# Altium footprint library ADAPTONE_CARTE_DE_SON.PcbLib: 29 footprints (part 2 of 2)
Each footprint in its own frame and in the unit in brackets; x right, y up, seen from the top. Pads: shape width x height; smd on the part's side, far side on the other; paste and mask are expansions set on the pad; w line width, h text height; cw(c..) or ccw(c..) is an arc to the next point about the centre after c.
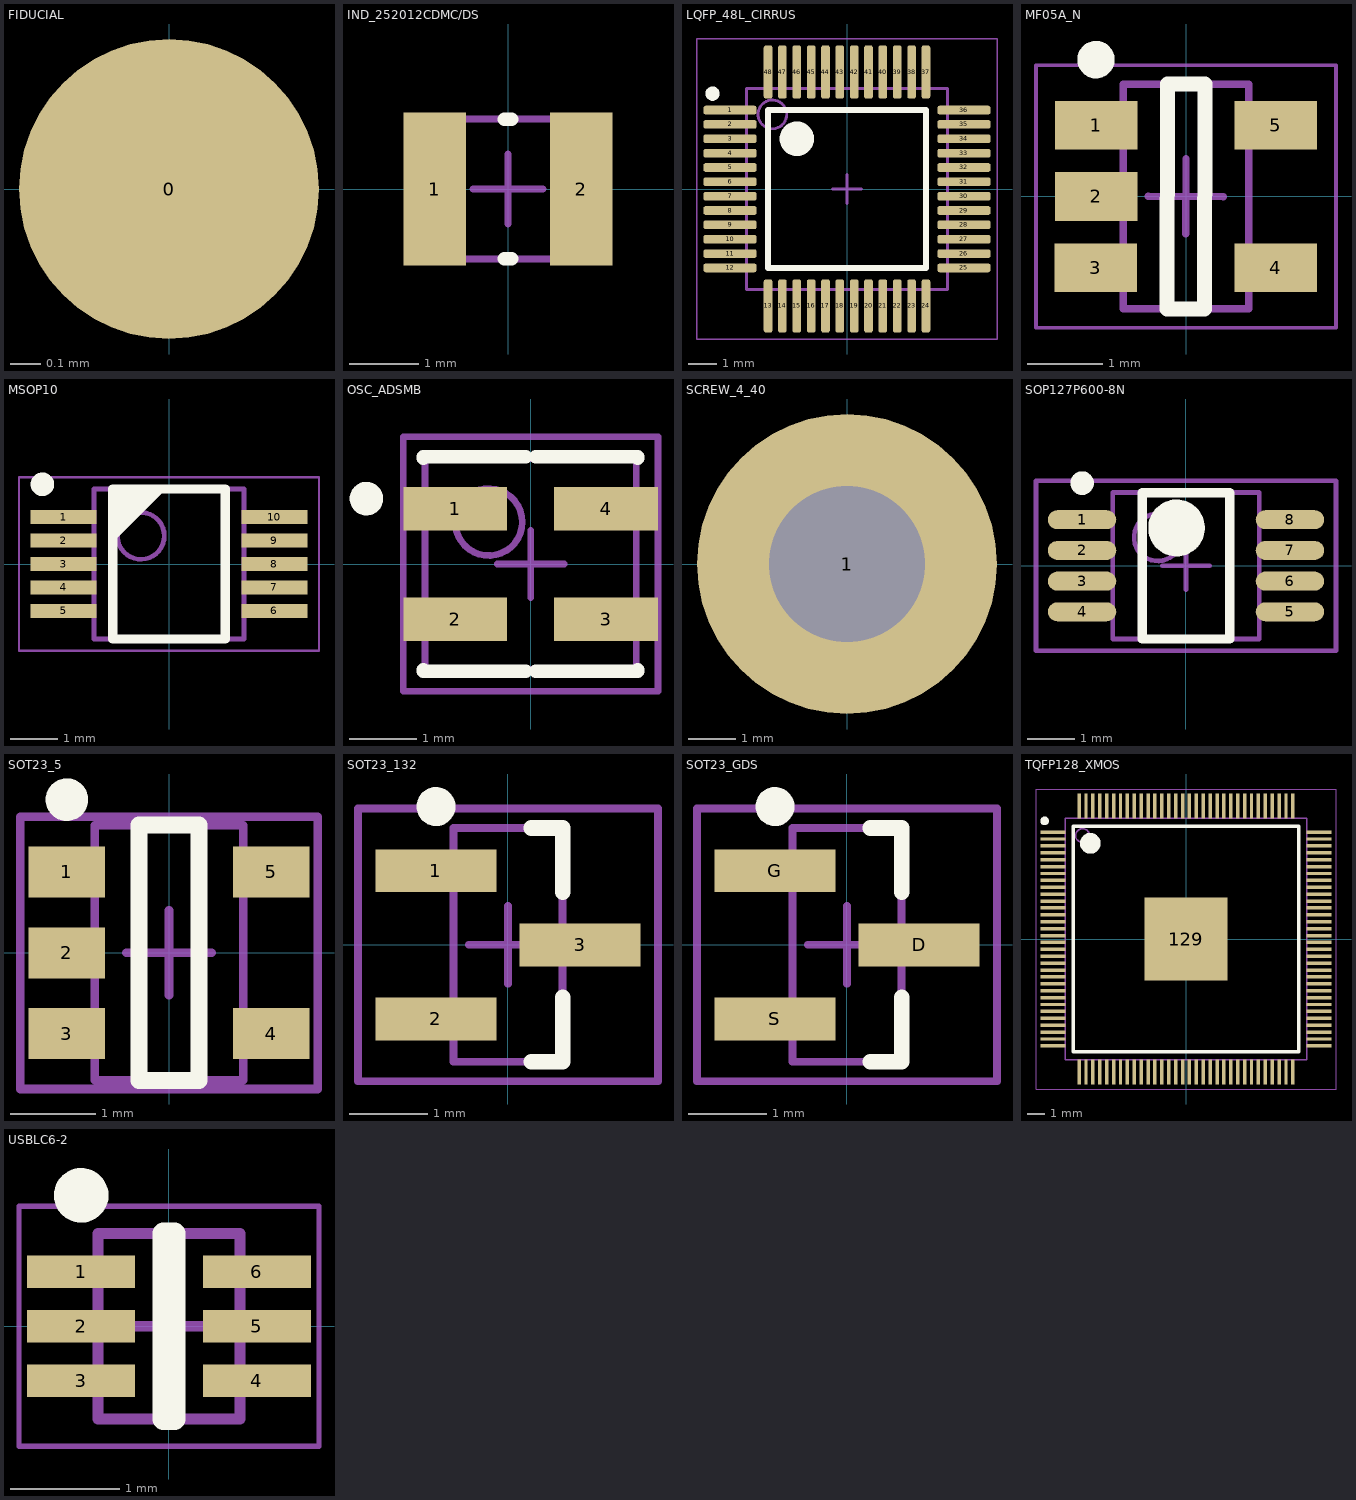
[diagram p1: the footprints below, top view; thin cyan lines are the x and y axes]

## FIDUCIAL [mm]
pads (1):
  rrect100% 1x1 smd mask+1: 0(0,0)

## IND_252012CDMC/DS [mm]
pads (2):
  rect 0.9x2.2 smd: 1(-1.05,0) 2(1.05,0)
Top Overlay:
  lines w0.2: -0.05,-1 0.05,-1 ; -0.05,1 0.05,1
Mechanical 13:
  lines w0.1: -1.25,-1 -1.25,1 1.25,1 1.25,-1 -1.25,-1
Mechanical 15:
  lines w0.1: -0.5,0 0.5,0 ; 0,-0.5 0,0.5 ; -1.3,-1 -1.3,1 1.3,1 1.3,-1 -1.3,-1
3D body: height 1.2, standoff 0, extent -1.25,-1 1.25,1

## LQFP_48L_CIRRUS [mm]
pads (48):
  rrect50% 1.85x0.3 smd mask+0.06: 1(-4.075,2.75) 2(-4.075,2.25) 3(-4.075,1.75) 4(-4.075,1.25) 5(-4.075,0.75) 6(-4.075,0.25) 7(-4.075,-0.25) 8(-4.075,-0.75) 9(-4.075,-1.25) 10(-4.075,-1.75) 11(-4.075,-2.25) 12(-4.075,-2.75) 25(4.075,-2.75) 26(4.075,-2.25) 27(4.075,-1.75) 28(4.075,-1.25) 29(4.075,-0.75) 30(4.075,-0.25) 31(4.075,0.25) 32(4.075,0.75) 33(4.075,1.25) 34(4.075,1.75) 35(4.075,2.25) 36(4.075,2.75)
  rrect50% 0.3x1.85 smd mask+0.06: 13(-2.75,-4.075) 14(-2.25,-4.075) 15(-1.75,-4.075) 16(-1.25,-4.075) 17(-0.75,-4.075) 18(-0.25,-4.075) 19(0.25,-4.075) 20(0.75,-4.075) 21(1.25,-4.075) 22(1.75,-4.075) 23(2.25,-4.075) 24(2.75,-4.075) 37(2.75,4.075) 38(2.25,4.075) 39(1.75,4.075) 40(1.25,4.075) 41(0.75,4.075) 42(0.25,4.075) 43(-0.25,4.075) 44(-0.75,4.075) 45(-1.25,4.075) 46(-1.75,4.075) 47(-2.25,4.075) 48(-2.75,4.075)
Top Overlay:
  circle w0.6: c-1.75,1.75 r0.3
  circle w0.25: c-4.685,3.323 r0.125
  lines w0.2: -2.75,-2.75 -2.75,2.75 2.75,2.75 2.75,-2.75 -2.75,-2.75
Mechanical 13:
  circle w0.1: c-2.6,2.6 r0.5
  lines w0.1: -3.5,-3.5 -3.5,3.5 3.5,3.5 3.5,-3.5 -3.5,-3.5
Mechanical 15:
  lines w0.05: -5.225,-5.225 -5.225,5.225 5.225,5.225 5.225,-5.225 -5.225,-5.225
  lines w0.1: -0.5,0 0.5,0 ; 0,-0.5 0,0.5
3D body: height 1.6, standoff 0.15, extent -3.5,-3.5 3.5,3.5
3D body: height 0.6, standoff 0, extent -4.5,2.65 -3.5,2.85
3D body: height 0.6, standoff 0, extent -4.5,2.15 -3.5,2.35
3D body: height 0.6, standoff 0, extent -4.5,1.65 -3.5,1.85
3D body: height 0.6, standoff 0, extent -4.5,1.15 -3.5,1.35
3D body: height 0.6, standoff 0, extent -4.5,-0.85 -3.5,-0.65
3D body: height 0.6, standoff 0, extent -4.5,-0.35 -3.5,-0.15
3D body: height 0.6, standoff 0, extent -4.5,0.15 -3.5,0.35
3D body: height 0.6, standoff 0, extent -4.5,0.65 -3.5,0.85
3D body: height 0.6, standoff 0, extent -4.5,-2.85 -3.5,-2.65
3D body: height 0.6, standoff 0, extent -4.5,-2.35 -3.5,-2.15
3D body: height 0.6, standoff 0, extent -4.5,-1.85 -3.5,-1.65
3D body: height 0.6, standoff 0, extent -4.5,-1.35 -3.5,-1.15
3D body: height 0.6, standoff 0, extent -1.35,-4.5 -1.15,-3.5
3D body: height 0.6, standoff 0, extent -1.85,-4.5 -1.65,-3.5
3D body: height 0.6, standoff 0, extent -2.35,-4.5 -2.15,-3.5
3D body: height 0.6, standoff 0, extent -2.85,-4.5 -2.65,-3.5
3D body: height 0.6, standoff 0, extent 0.65,-4.5 0.85,-3.5
3D body: height 0.6, standoff 0, extent 0.15,-4.5 0.35,-3.5
3D body: height 0.6, standoff 0, extent -0.35,-4.5 -0.15,-3.5
3D body: height 0.6, standoff 0, extent -0.85,-4.5 -0.65,-3.5
3D body: height 0.6, standoff 0, extent 2.65,-4.5 2.85,-3.5
3D body: height 0.6, standoff 0, extent 2.15,-4.5 2.35,-3.5
3D body: height 0.6, standoff 0, extent 1.65,-4.5 1.85,-3.5
3D body: height 0.6, standoff 0, extent 1.15,-4.5 1.35,-3.5
3D body: height 0.6, standoff 0, extent 3.5,-1.35 4.5,-1.15
3D body: height 0.6, standoff 0, extent 3.5,-1.85 4.5,-1.65
3D body: height 0.6, standoff 0, extent 3.5,-2.35 4.5,-2.15
3D body: height 0.6, standoff 0, extent 3.5,-2.85 4.5,-2.65
3D body: height 0.6, standoff 0, extent 3.5,0.65 4.5,0.85
3D body: height 0.6, standoff 0, extent 3.5,0.15 4.5,0.35
3D body: height 0.6, standoff 0, extent 3.5,-0.35 4.5,-0.15
3D body: height 0.6, standoff 0, extent 3.5,-0.85 4.5,-0.65
3D body: height 0.6, standoff 0, extent 3.5,2.65 4.5,2.85
3D body: height 0.6, standoff 0, extent 3.5,2.15 4.5,2.35
3D body: height 0.6, standoff 0, extent 3.5,1.65 4.5,1.85
3D body: height 0.6, standoff 0, extent 3.5,1.15 4.5,1.35
3D body: height 0.6, standoff 0, extent 1.15,3.5 1.35,4.5
3D body: height 0.6, standoff 0, extent 1.65,3.5 1.85,4.5
3D body: height 0.6, standoff 0, extent 2.15,3.5 2.35,4.5
3D body: height 0.6, standoff 0, extent 2.65,3.5 2.85,4.5
3D body: height 0.6, standoff 0, extent -0.85,3.5 -0.65,4.5
3D body: height 0.6, standoff 0, extent -0.35,3.5 -0.15,4.5
3D body: height 0.6, standoff 0, extent 0.15,3.5 0.35,4.5
3D body: height 0.6, standoff 0, extent 0.65,3.5 0.85,4.5
3D body: height 0.6, standoff 0, extent -2.85,3.5 -2.65,4.5
3D body: height 0.6, standoff 0, extent -2.35,3.5 -2.15,4.5
3D body: height 0.6, standoff 0, extent -1.85,3.5 -1.65,4.5
3D body: height 0.6, standoff 0, extent -1.35,3.5 -1.15,4.5

## MF05A_N [mm]
pads (5):
  rect 1.1x0.65 smd: 1(-1.2,0.95) 2(-1.2,0) 3(-1.2,-0.95) 4(1.2,-0.95) 5(1.2,0.95)
Top Overlay:
  circle w0.25: c-1.2,1.825 r0.125
  lines w0.2: -0.25,-1.5 -0.25,1.5 0.25,1.5 0.25,-1.5 -0.25,-1.5
Mechanical 13:
  lines w0.1: -0.835,-1.495 0.835,-1.495 0.835,1.495 -0.835,1.495 -0.835,-1.495
Mechanical 15:
  lines w0.05: -2,-1.75 2,-1.75 2,1.75 -2,1.75 -2,-1.75
  lines w0.1: -0.5,0 0.5,0 ; 0,-0.5 0,0.5
3D body: height 1.19, standoff 0.05, extent -0.835,-1.495 0.835,1.495

## MSOP10 [mm]
pads (10):
  rect 1.4x0.3 smd mask+0.04: 1(-2.25,1) 2(-2.25,0.5) 3(-2.25,0) 4(-2.25,-0.5) 5(-2.25,-1) 6(2.25,-1) 7(2.25,-0.5) 8(2.25,0) 9(2.25,0.5) 10(2.25,1)
Top Overlay:
  circle w0.25: c-2.7,1.7 r0.125
  lines w0.2: -1.2,0.6 -0.2,1.6 ; -1.2,0.8 -0.4,1.6 ; -1.2,1 -0.6,1.6 ; -1.2,1.2 -0.8,1.6 ; -1.2,1.4 -1,1.6 ; -1.2,-1.6 -1.2,1.6 1.2,1.6 1.2,-1.6 -1.2,-1.6
Mechanical 15:
  circle w0.1: c-0.6,0.6 r0.5
  lines w0.1: -1.6,-1.6 -1.6,1.6 1.6,1.6 1.6,-1.6 -1.6,-1.6
Mechanical 16:
  lines w0.05: -3.2,-1.85 -3.2,1.85 3.2,1.85 3.2,-1.85 -3.2,-1.85
3D body: height 1.1, standoff 0, extent -1.5,-1.5 1.5,1.5
3D body: height 0.5, standoff 0, extent -2.4,0.9 -1.5,1.1
3D body: height 0.5, standoff 0, extent -2.4,0.4 -1.5,0.6
3D body: height 0.5, standoff 0, extent -2.4,-0.1 -1.5,0.1
3D body: height 0.5, standoff 0, extent -2.4,-0.6 -1.5,-0.4
3D body: height 0.5, standoff 0, extent -2.4,-1.1 -1.5,-0.9
3D body: height 0.5, standoff 0, extent 1.5,0.9 2.4,1.1
3D body: height 0.5, standoff 0, extent 1.5,0.4 2.4,0.6
3D body: height 0.5, standoff 0, extent 1.5,-0.1 2.4,0.1
3D body: height 0.5, standoff 0, extent 1.5,-0.6 2.4,-0.4
3D body: height 0.5, standoff 0, extent 1.5,-1.1 2.4,-0.9

## OSC_ADSMB [mm]
pads (4):
  rect 1.55x0.65 smd mask+0.07: 1(-1.125,0.825) 2(-1.125,-0.825) 3(1.125,-0.825) 4(1.125,0.825)
Top Overlay:
  circle w0.25: c-2.45,0.975 r0.125
  lines w0.2: -1.6,-1.575 -1.6,-1.6 -0.075,-1.6 ; -1.6,1.575 -1.6,1.6 -0.075,1.6 ; 0.075,-1.6 1.6,-1.6 1.6,-1.575 ; 0.075,1.6 1.6,1.6 1.6,1.575
Mechanical 13:
  circle w0.1: c-0.625,0.625 r0.5
  lines w0.1: -1.575,-1.575 1.575,-1.575 1.575,1.575 -1.575,1.575 -1.575,-1.575
Mechanical 15:
  lines w0.1: -0.5,0 0.5,0 ; 0,-0.5 0,0.5 ; -1.9,-1.9 1.9,-1.9 1.9,1.9 -1.9,1.9 -1.9,-1.9
3D body "ASDMB.STEP": height 0.86, standoff 0.01, extent -1,-1.25 1,1.25

## SCREW_4_40 [mil]
pads (1):
  rrect100% 250x250 hole 130 mask+0.79: 1(0,0)

## SOP127P600-8N [mm]
pads (8):
  oval 1.45x0.401 smd mask+0.04: 1(-2.2,0.975) 2(-2.2,0.325) 3(-2.2,-0.325) 4(-2.2,-0.975) 5(2.2,-0.975) 6(2.2,-0.325) 7(2.2,0.325) 8(2.2,0.975)
Top Overlay:
  circle w0.25: c-2.2,1.75 r0.125
  circle w0.6: c-0.2,0.8 r0.3
  lines w0.2: -0.925,-1.55 -0.925,1.55 0.925,1.55 0.925,-1.55 -0.925,-1.55
Mechanical 13:
  circle w0.1: c-0.6,0.6 r0.5
  lines w0.1: -1.55,-1.55 -1.55,1.55 1.55,1.55 1.55,-1.55 -1.55,-1.55
Mechanical 15:
  lines w0.1: -0.5,0 0.5,0 ; 0,-0.5 0,0.5 ; -3.175,-1.8 -3.175,1.8 3.175,1.8 3.175,-1.8 -3.175,-1.8
3D body: height 1.1, standoff 0.05, extent -1.55,-1.55 1.55,1.55

## SOT23_5 [mm]
pads (5):
  rect 0.9x0.6 smd mask+0.07: 1(-1.2,0.95) 2(-1.2,0) 3(-1.2,-0.95) 4(1.2,-0.95) 5(1.2,0.95)
Top Overlay:
  circle w0.25: c-1.2,1.8 r0.125
  lines w0.2: -0.35,-1.5 0.35,-1.5 0.35,1.5 -0.35,1.5 -0.35,-1.5
Mechanical 13:
  lines w0.1: -0.875,-1.5 -0.875,1.5 0.875,1.5 0.875,-1.5 -0.875,-1.5
Mechanical 15:
  lines w0.1: -0.5,0 0.5,0 ; 0,-0.5 0,0.5 ; -1.75,-1.6 -1.75,1.6 1.75,1.6 1.75,-1.6 -1.75,-1.6
3D body: height 1.45, standoff 0, extent -0.875,-1.5 0.875,1.5

## SOT23_132 [mm]
pads (3):
  rect 1.55x0.55 smd: 1(-0.925,0.95) 2(-0.925,-0.95) 3(0.925,0)
Top Overlay:
  circle w0.25: c-0.925,1.775 r0.125
  lines w0.2: 0.3,-1.5 0.7,-1.5 0.7,-0.675 ; 0.3,1.5 0.7,1.5 0.7,0.675
Mechanical 13:
  lines w0.1: -0.7,-1.5 0.7,-1.5 0.7,1.5 -0.7,1.5 -0.7,-1.5
Mechanical 15:
  lines w0.1: -0.5,0 0.5,0 ; 0,-0.5 0,0.5 ; -1.925,-1.75 1.925,-1.75 1.925,1.75 -1.925,1.75 -1.925,-1.75
3D body: height 1.2, standoff 0, extent -0.7,-1.5 0.7,1.5

## SOT23_GDS [mm]
pads (3):
  rect 1.55x0.55 smd: D(0.925,0) G(-0.925,0.95) S(-0.925,-0.95)
Top Overlay:
  circle w0.25: c-0.925,1.775 r0.125
  lines w0.2: 0.3,-1.5 0.7,-1.5 0.7,-0.675 ; 0.3,1.5 0.7,1.5 0.7,0.675
Mechanical 13:
  lines w0.1: -0.7,-1.5 0.7,-1.5 0.7,1.5 -0.7,1.5 -0.7,-1.5
Mechanical 15:
  lines w0.1: -0.5,0 0.5,0 ; 0,-0.5 0,0.5 ; -1.925,-1.75 1.925,-1.75 1.925,1.75 -1.925,1.75 -1.925,-1.75
3D body: height 1.2, standoff 0, extent -0.7,-1.5 0.7,1.5

## TQFP128_XMOS [mm]
pads (129):
  rect 1.45x0.2 smd mask+0.051: 1(-7.7,6.2) 2(-7.7,5.8) 3(-7.7,5.4) 4(-7.7,5) 5(-7.7,4.6) 6(-7.7,4.2) 7(-7.7,3.8) 8(-7.7,3.4) 9(-7.7,3) 10(-7.7,2.6) 11(-7.7,2.2) 12(-7.7,1.8) 13(-7.7,1.4) 14(-7.7,1) 15(-7.7,0.6) 16(-7.7,0.2) 17(-7.7,-0.2) 18(-7.7,-0.6) 19(-7.7,-1) 20(-7.7,-1.4) 21(-7.7,-1.8) 22(-7.7,-2.2) 23(-7.7,-2.6) 24(-7.7,-3) 25(-7.7,-3.4) 26(-7.7,-3.8) 27(-7.7,-4.2) 28(-7.7,-4.6) 29(-7.7,-5) 30(-7.7,-5.4) 31(-7.7,-5.8) 32(-7.7,-6.2) 65(7.7,-6.2) 66(7.7,-5.8) 67(7.7,-5.4) 68(7.7,-5) 69(7.7,-4.6) 70(7.7,-4.2) 71(7.7,-3.8) 72(7.7,-3.4) 73(7.7,-3) 74(7.7,-2.6) 75(7.7,-2.2) 76(7.7,-1.8) 77(7.7,-1.4) 78(7.7,-1) 79(7.7,-0.6) 80(7.7,-0.2) 81(7.7,0.2) 82(7.7,0.6) 83(7.7,1) 84(7.7,1.4) 85(7.7,1.8) 86(7.7,2.2) 87(7.7,2.6) 88(7.7,3) 89(7.7,3.4) 90(7.7,3.8) 91(7.7,4.2) 92(7.7,4.6) 93(7.7,5) 94(7.7,5.4) 95(7.7,5.8) 96(7.7,6.2)
  rect 0.2x1.45 smd mask+0.051: 33(-6.2,-7.7) 34(-5.8,-7.7) 35(-5.4,-7.7) 36(-5,-7.7) 37(-4.6,-7.7) 38(-4.2,-7.7) 39(-3.8,-7.7) 40(-3.4,-7.7) 41(-3,-7.7) 42(-2.6,-7.7) 43(-2.2,-7.7) 44(-1.8,-7.7) 45(-1.4,-7.7) 46(-1,-7.7) 47(-0.6,-7.7) 48(-0.2,-7.7) 49(0.2,-7.7) 50(0.6,-7.7) 51(1,-7.7) 52(1.4,-7.7) 53(1.8,-7.7) 54(2.2,-7.7) 55(2.6,-7.7) 56(3,-7.7) 57(3.4,-7.7) 58(3.8,-7.7) 59(4.2,-7.7) 60(4.6,-7.7) 61(5,-7.7) 62(5.4,-7.7) 63(5.8,-7.7) 64(6.2,-7.7) 97(6.2,7.7) 98(5.8,7.7) 99(5.4,7.7) 100(5,7.7) 101(4.6,7.7) 102(4.2,7.7) 103(3.8,7.7) 104(3.4,7.7) 105(3,7.7) 106(2.6,7.7) 107(2.2,7.7) 108(1.8,7.7) 109(1.4,7.7) 110(1,7.7) 111(0.6,7.7) 112(0.2,7.7) 113(-0.2,7.7) 114(-0.6,7.7) 115(-1,7.7) 116(-1.4,7.7) 117(-1.8,7.7) 118(-2.2,7.7) 119(-2.6,7.7) 120(-3,7.7) 121(-3.4,7.7) 122(-3.8,7.7) 123(-4.2,7.7) 124(-4.6,7.7) 125(-5,7.7) 126(-5.4,7.7) 127(-5.8,7.7) 128(-6.2,7.7)
  rect 4.8x4.8 smd paste-5: 129(0,0)
Top Overlay:
  circle w0.25: c-8.2,6.85 r0.125
  circle w0.6: c-5.55,5.55 r0.3
  lines w0.2: -6.55,-6.55 -6.55,6.55 6.55,6.55 6.55,-6.55 -6.55,-6.55
Top Paste:
  region: -2.1,-0.9 -0.9,-0.9 -0.9,-2.1 -2.1,-2.1
  region: -2.1,0.6 -0.9,0.6 -0.9,-0.6 -2.1,-0.6
  region: -0.6,0.6 0.6,0.6 0.6,-0.6 -0.6,-0.6
  region: -0.6,-0.9 0.6,-0.9 0.6,-2.1 -0.6,-2.1
  region: 0.9,-0.9 2.1,-0.9 2.1,-2.1 0.9,-2.1
  region: 0.9,0.6 2.1,0.6 2.1,-0.6 0.9,-0.6
  region: 0.9,2.1 2.1,2.1 2.1,0.9 0.9,0.9
  region: -0.6,2.1 0.6,2.1 0.6,0.9 -0.6,0.9
  region: -2.1,2.1 -0.9,2.1 -0.9,0.9 -2.1,0.9
Mechanical 15:
  circle w0.1: c-6,6 r0.4
  lines w0.1: -7,-7 -7,7 7,7 7,-7 -7,-7
Mechanical 16:
  lines w0.05: -8.7,-8.7 -8.7,8.7 8.7,8.7 8.7,-8.7 -8.7,-8.7
3D body: height 1.01, standoff 0, extent 3.715,-0.52 4.145,0.79
3D body: height 1.01, standoff 0, extent 4.125,-0.515 4.555,0.795
3D body: height 1.01, standoff 0, extent 3.13,-0.515 3.56,0.795
3D body: height 1.01, standoff 0, extent 2.72,-0.52 3.15,0.79
3D body: height 1.01, standoff 0, extent 1.73,-0.37 2.55,0.79
3D body: height 1.01, standoff 0, extent 1.7,-0.5 2.55,-0.33
3D body: height 1.01, standoff 0, extent 1.11,-0.12 1.59,0.04
3D body: height 1.01, standoff 0, extent 0.01,-0.5 0.96,0.78
3D body: height 1.01, standoff 0, extent -0.9,-0.5 -0.17,0.09
3D body: height 1.01, standoff 0, extent -0.75,0.07 -0.27,0.78
3D body: height 1.01, standoff 0, extent -1.12,0.07 -0.75,0.21
3D body: height 1.01, standoff 0, extent -1.12,0.64 -0.7,0.78
3D body: height 1.01, standoff 0, extent -1.29,-0.5 -1.12,0.78
3D body: height 1.01, standoff 0, extent -2.12,0.1 -1.5,0.8
3D body: height 1.01, standoff 0, extent -2.745,-0.515 -2.125,0.185
3D body: height 1.01, standoff 0, extent -2.13,-0.52 -1.51,0.18
3D body: height 1.01, standoff 0, extent -2.74,0.1 -2.12,0.8
3D body: height 1.01, standoff 0, extent -4.02,-0.52 -2.89,0.8
3D body: height 1.01, standoff 0, extent -5,-0.5 -4.13,0.43
3D body: height 1, standoff 0, extent -7,-7 7,7
3D body: height 1.01, standoff 0, extent 0.575,3.001 1.154,4.157
3D body: height 1.01, standoff 0, extent -0.002,3.001 0.633,4.157
3D body: height 1.01, standoff 0, extent 1.179,2.992 1.873,4.163
3D body: height 1.01, standoff 0, extent -1.298,2.988 -0.027,4.183
3D body: height 1.01, standoff 0, extent -2.517,3.026 -1.22,4.386

## USBLC6-2 [mm]
pads (6):
  rect 0.99x0.3 smd mask+0.05: 1(-0.805,0.5) 2(-0.805,0) 3(-0.805,-0.5) 4(0.805,-0.5) 5(0.805,0) 6(0.805,0.5)
Top Overlay:
  circle w0.25: c-0.805,1.2 r0.125
  lines w0.2: -0.05,-0.85 -0.05,0.85 0.05,0.85 0.05,-0.85 -0.05,-0.85
Mechanical 13:
  lines w0.1: -0.65,-0.85 0.65,-0.85 0.65,0.85 -0.65,0.85 -0.65,-0.85
Mechanical 15:
  lines w0.05: -1.375,-1.1 1.375,-1.1 1.375,1.1 -1.375,1.1 -1.375,-1.1
  lines w0.1: -0.5,0 0.5,0 ; 0,-0.5 0,0.5
3D body: height 0.6, standoff 0.05, extent -0.65,-0.85 0.65,0.85